# EAGLE library part MAX14920 (library MAX14920)
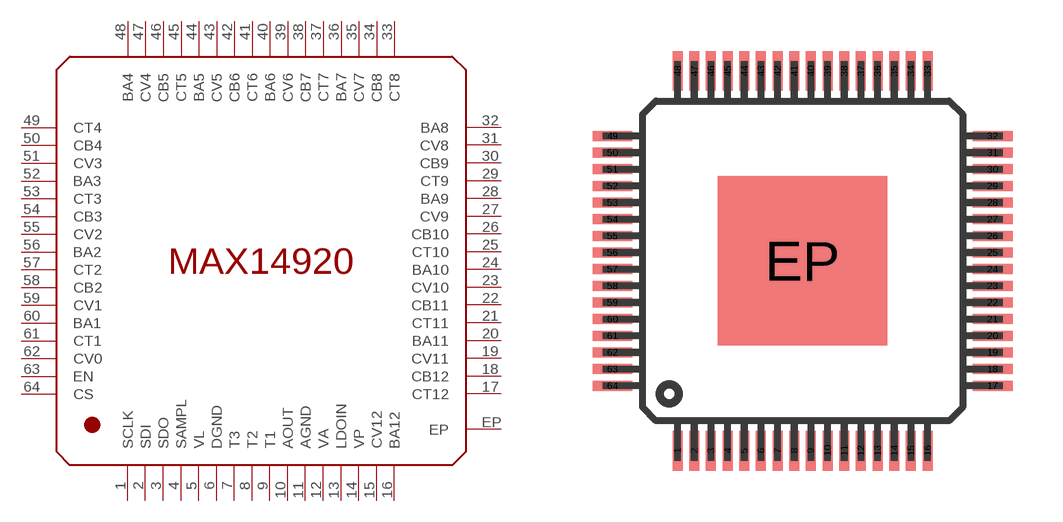
[diagram p0: symbol with the pads of TQFP64-EP; footprint TQFP64-EP]

Designator prefix -

## MAX14920  [TQFP64-EP]
1  SCLK
2  SDI
3  SDO
4  SAMPL
5  VL
6  DGND
7  T3
8  T2
9  T1
10  AOUT
11  AGND
12  VA
13  LDOIN
14  VP
15  CV12
16  BA12
17  CT12
18  CB12
19  CV11
20  BA11
21  CT11
22  CB11
23  CV10
24  BA10
25  CT10
26  CB10
27  CV9
28  BA9
29  CT9
30  CB9
31  CV8
32  BA8
33  CT8
34  CB8
35  CV7
36  BA7
37  CT7
38  CB7
39  CV6
40  BA6
41  CT6
42  CB6
43  CV5
44  BA5
45  CT5
46  CB5
47  CV4
48  BA4
49  CT4
50  CB4
51  CV3
52  BA3
53  CT3
54  CB3
55  CV2
56  BA2
57  CT2
58  CB2
59  CV1
60  BA1
61  CT1
62  CV0
63  EN
64  CS
EP  EP

## Footprint TQFP64-EP (pad centres in mm)
Thin Quad Flat Pack package type TQ
smd 0.3 x 1.2: 1 -3.75,-5.7; 2 -3.25,-5.7; 3 -2.75,-5.7; 4 -2.25,-5.7; 5 -1.75,-5.7; 6 -1.25,-5.7; 7 -0.75,-5.7; 8 -0.25,-5.7; 9 0.25,-5.7; 10 0.75,-5.7; 11 1.25,-5.7; 12 1.75,-5.7; 13 2.25,-5.7; 14 2.75,-5.7; 15 3.25,-5.7; 16 3.75,-5.7; 33 3.75,5.7; 34 3.25,5.7; 35 2.75,5.7; 36 2.25,5.7; 37 1.75,5.7; 38 1.25,5.7; 39 0.75,5.7; 40 0.25,5.7; 41 -0.25,5.7; 42 -0.75,5.7; 43 -1.25,5.7; 44 -1.75,5.7; 45 -2.25,5.7; 46 -2.75,5.7; 47 -3.25,5.7; 48 -3.75,5.7
smd 1.2 x 0.3: 17 5.7,-3.75; 18 5.7,-3.25; 19 5.7,-2.75; 20 5.7,-2.25; 21 5.7,-1.75; 22 5.7,-1.25; 23 5.7,-0.75; 24 5.7,-0.25; 25 5.7,0.25; 26 5.7,0.75; 27 5.7,1.25; 28 5.7,1.75; 29 5.7,2.25; 30 5.7,2.75; 31 5.7,3.25; 32 5.7,3.75; 49 -5.7,3.75; 50 -5.7,3.25; 51 -5.7,2.75; 52 -5.7,2.25; 53 -5.7,1.75; 54 -5.7,1.25; 55 -5.7,0.75; 56 -5.7,0.25; 57 -5.7,-0.25; 58 -5.7,-0.75; 59 -5.7,-1.25; 60 -5.7,-1.75; 61 -5.7,-2.25; 62 -5.7,-2.75; 63 -5.7,-3.25; 64 -5.7,-3.75
smd 5.08 x 5.08: EP 0,0